# Altium footprint library chip_0603_1.PcbLib: 1 footprints
Each footprint in its own frame and in the unit in brackets; x right, y up, seen from the top. Pads: shape width x height; smd on the part's side, far side on the other; paste and mask are expansions set on the pad; w line width, h text height; cw(c..) or ccw(c..) is an arc to the next point about the centre after c.
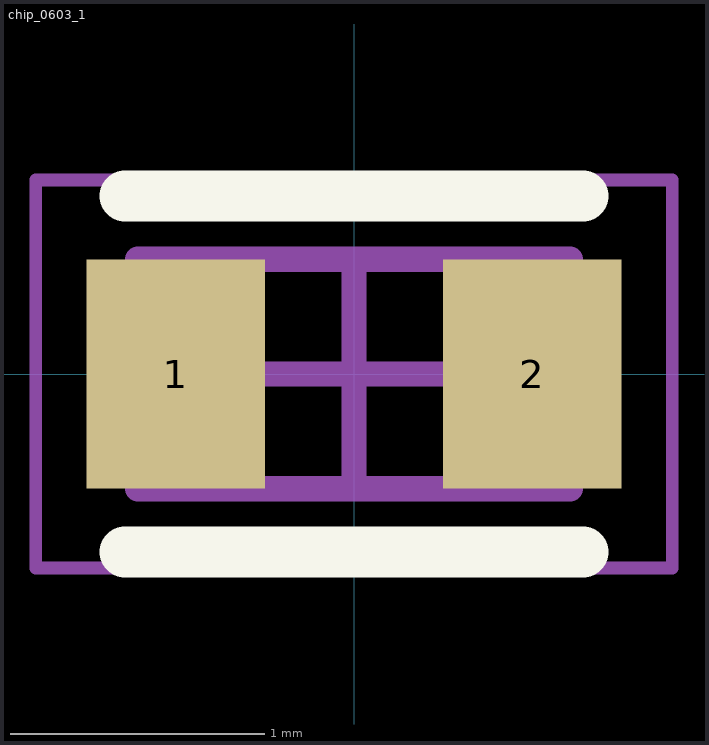
[diagram p0: the footprint, top view; thin cyan lines are the x and y axes]

## chip_0603_1 [mm] "chip 0603 with larger silkscreen outline"
height 0.6
pads (2):
  rect 0.7x0.9 smd: 1(-0.7,0) 2(0.7,0)
Top Overlay:
  lines w0.2: -0.9,-0.7 0.9,-0.7 ; -0.9,0.7 0.9,0.7
Mechanical 13:
  lines w0.1: -0.85,-0.45 -0.85,0.45 0.85,0.45 0.85,-0.45 -0.85,-0.45
Mechanical 15:
  lines w0.05: -1.25,-0.762 -1.25,0.762 1.25,0.762 1.25,-0.762 -1.25,-0.762
  lines w0.1: -0.45,0 0.45,0 ; 0,-0.45 0,0.45
3D body: height 0.6, standoff 0, extent -0.55,-0.45 0.55,0.45
3D body: height 0.6, standoff 0, extent -0.85,-0.45 -0.55,0.45
3D body: height 0.6, standoff 0, extent 0.55,-0.45 0.85,0.45